# EAGLE library part PHA2U (library monome-inc)
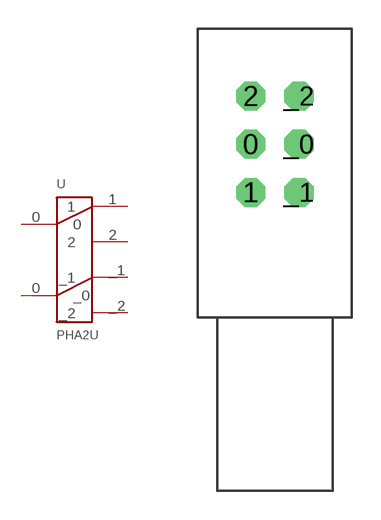
[diagram p7: symbol with the pads of PHA2U; footprint PHA2U]

Designator prefix -

## PHA2U  [PHA2U]
0  0
1  1
2  2
_0  _0
_1  _1
_2  _2

## Footprint PHA2U (pad centres in mm)
drill 1 octagon: 0 -1.25,0; 1 -1.25,-2.5; 2 -1.25,2.5; _0 1.25,0; _1 1.25,-2.5; _2 1.25,2.5